# EAGLE library part IC_FIN1031 (library akita)
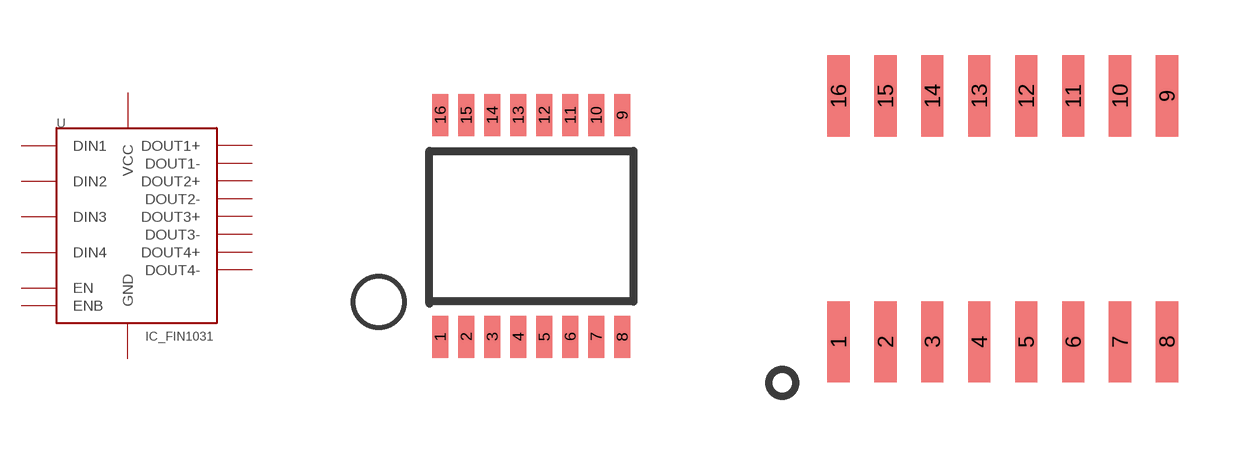
[diagram p116: symbol with the pads of TSSOP16; footprints TSSOP16, SOIC16]

Designator prefix U

## IC_FIN1031MTC  [TSSOP16]

## IC_FIN1031M  [SOIC16]
1  DIN1
2  DOUT1+
3  DOUT1-
4  EN
5  DOUT2-
6  DOUT2+
7  DIN2
8  GND
9  DIN3
10  DOUT3+
11  DOUT3-
12  ENB
13  DOUT4-
14  DOUT4+
15  DIN4
16  VCC

## Footprint TSSOP16 (pad centres in mm)
smd 0.4 x 1.05: 1 -2.275,-2.775; 2 -1.625,-2.775; 3 -0.975,-2.775; 4 -0.325,-2.775; 5 0.325,-2.775; 6 0.975,-2.775; 7 1.625,-2.775; 8 2.275,-2.775; 9 2.275,2.775; 10 1.625,2.775; 11 0.975,2.775; 12 0.325,2.775; 13 -0.325,2.775; 14 -0.975,2.775; 15 -1.625,2.775; 16 -2.275,2.775

## Footprint SOIC16 (pad centres in mm)
smd 0.6 x 2.2: 1 -4.445,-3.33; 2 -3.175,-3.33; 3 -1.905,-3.33; 4 -0.635,-3.33; 5 0.635,-3.33; 6 1.905,-3.33; 7 3.175,-3.33; 8 4.445,-3.33; 9 4.445,3.33; 10 3.175,3.33; 11 1.905,3.33; 12 0.635,3.33; 13 -0.635,3.33; 14 -1.905,3.33; 15 -3.175,3.33; 16 -4.445,3.33